# Altium integrated library Microchip PIC16 Part 2.IntLib: 1569 symbols (part 40 of 56)
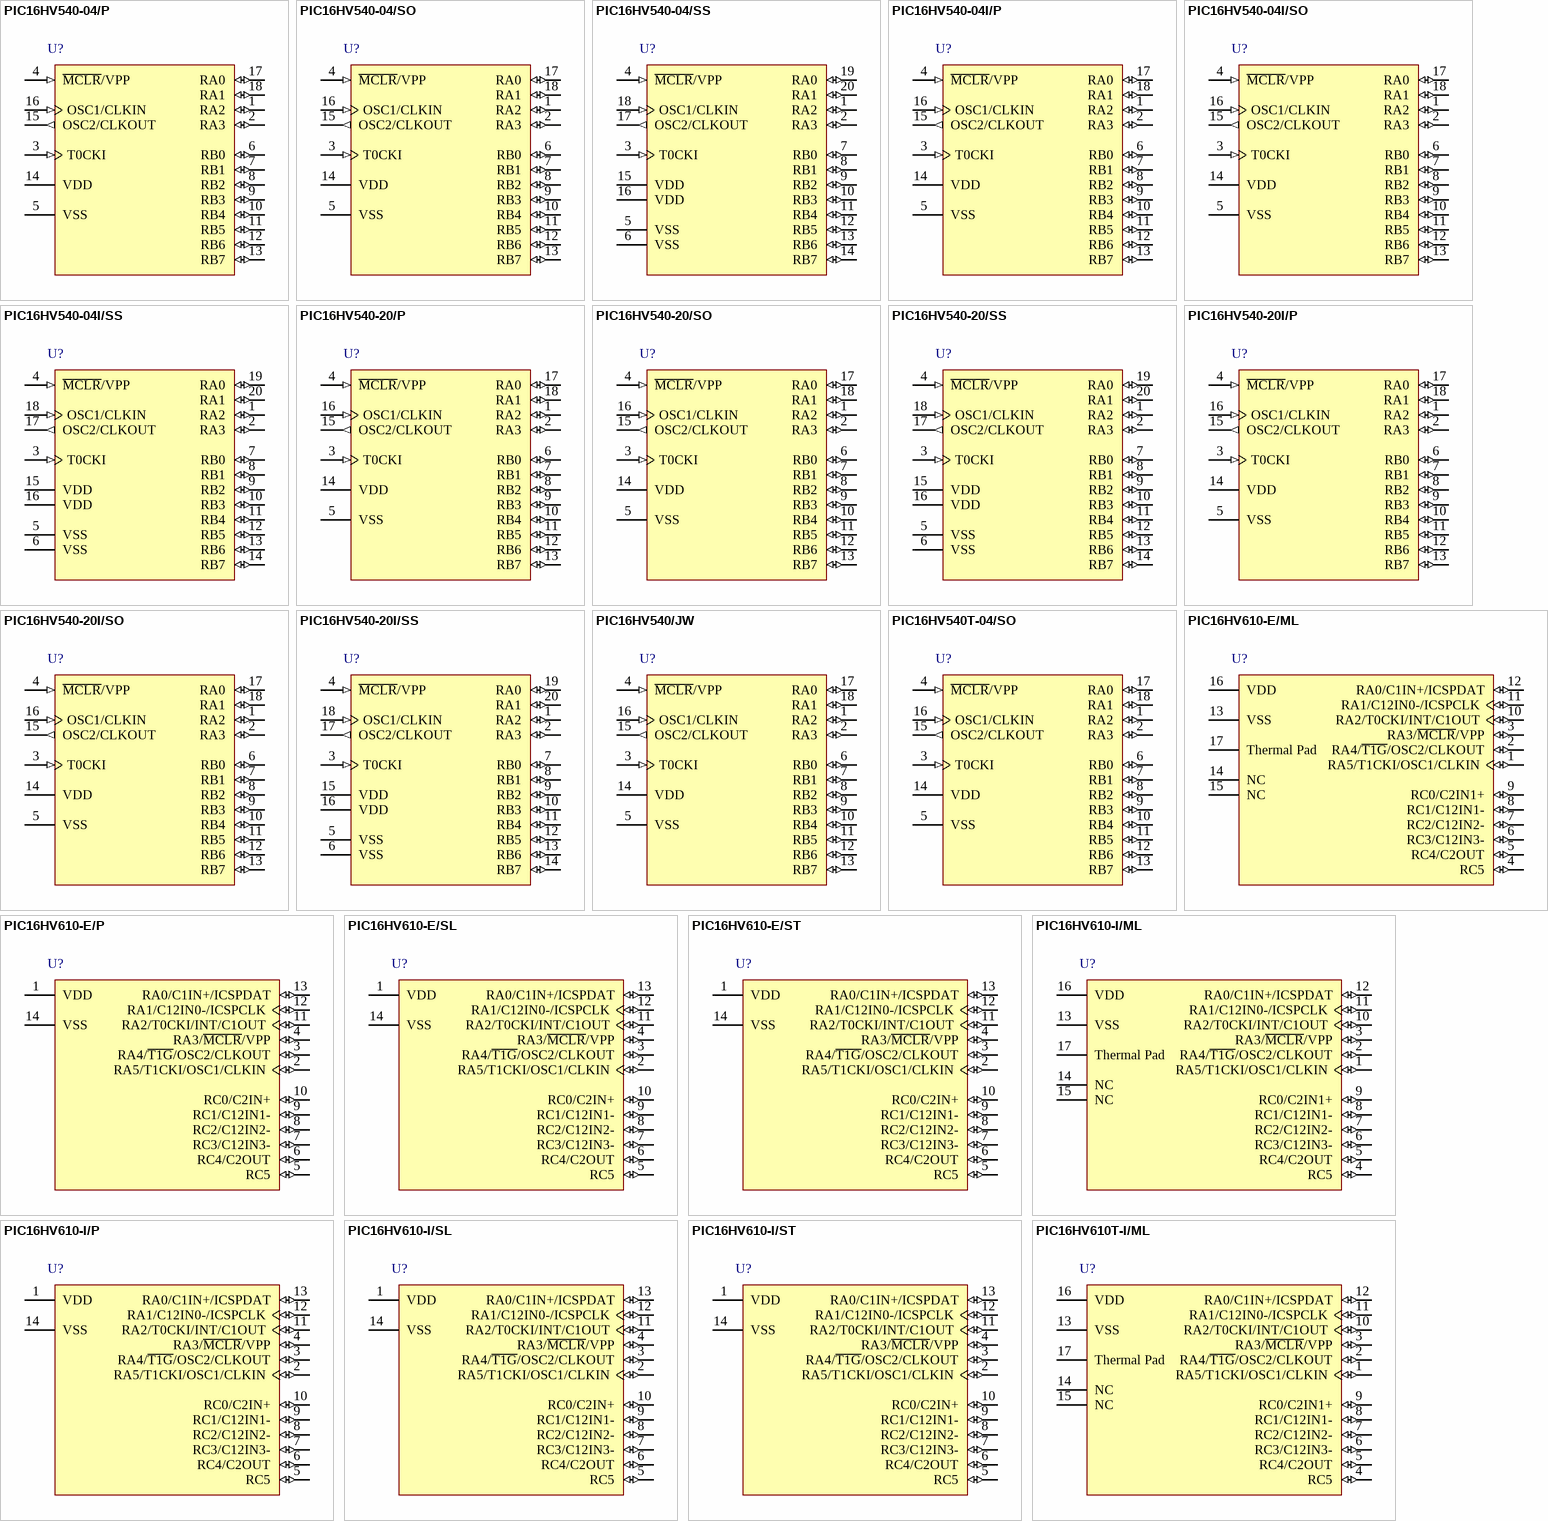
[diagram p164: symbols PIC16HV540-04/P to PIC16HV610T-I/ML]

## PIC16HV610-E/ML
designator U?
8-Bit Flash Microcontroller CMOS Microcontroller, 1K (x14-Bit words) Program Memory, 64 Bytes Data Memory, 11 I/O pins, 16-Pin QFN, Extended Temperature; Manufacturer: Microchip; PartNumber: PIC16HV610-E/ML; DatasheetVersion: revF, Nov-2009; PackageVersion: revBB, Aug-2009; PackageReference: QFN-ML16; PackageDescription: 16-Lead Plastic Quad Flat, No Lead Package (ML) - 4x4x0.9 mm Body [QFN]; Supplier 1: Digi-Key; Supplier Part Number 1: PIC16HV610-E/ML-ND; Supplier 2: Mouser; Supplier Part Number 2: 579-PIC16HV610-E/ML; Code_JEDEC: MO-220; Code_IPC: QFN65P400X400-16V2; ComponentLink1Description: Manufacturer URL; ComponentLink1URL: http://www.microchip.com/; ComponentLink2Description: Datasheet; ComponentLink2URL: http://ww1.microchip.com/downloads/en/DeviceDoc/41288F.pdf; ComponentLink3Description: Package Specification; ComponentLink3URL: http://www.microchip.com/stellent/groups/techpub_sg/documents/packagingspec/en012702.pdf
footprint QFN-ML16_N (QFN, 16-Leads, Body 4x4mm, Pitch 0.65mm, Thermal Pad 2.8x2.8mm, IPC Medium Density)
footprint QFN-ML16_L (QFN, 16-Leads, Body 4x4mm, Pitch 0.65mm, Thermal Pad 2.8x2.8mm, IPC High Density)
footprint QFN-ML16_M (QFN, 16-Leads, Body 4x4mm, Pitch 0.65mm, Thermal Pad 2.8x2.8mm, IPC Low Density)
pins: 1 RA5/T1CKI/OSC1/CLKIN (io), 2 RA4/~{T1G}/OSC2/CLKOUT (io), 3 RA3/~{MCLR}/VPP (io), 4 RC5 (io), 5 RC4/C2OUT (io), 6 RC3/C12IN3- (io), 7 RC2/C12IN2- (io), 8 RC1/C12IN1- (io), 9 RC0/C2IN1+ (io), 10 RA2/T0CKI/INT/C1OUT (io), 11 RA1/C12IN0-/ICSPCLK (io), 12 RA0/C1IN+/ICSPDAT (io), 13 VSS (power), 14 NC, 15 NC, 16 VDD (power), 17 Thermal Pad

## PIC16HV610-E/P
designator U?
8-Bit Flash Microcontroller CMOS Microcontroller, 1K (x14-Bit words) Program Memory, 64 Bytes Data Memory, 11 I/O pins, 14-Pin PDIP, Extended Temperature; Manufacturer: Microchip; PartNumber: PIC16HV610-E/P; DatasheetVersion: revF, Nov-2009; PackageVersion: revBB, Aug-2009; PackageReference: PDIP300-P14; PackageDescription: 14-Lead Plastic Dual In-Line (P) - 300 mil Body [PDIP]; Supplier 1: Digi-Key; Supplier Part Number 1: PIC16HV610-E/P-ND; Supplier 2: Mouser; Supplier Part Number 2: 579-PIC16HV610-E/P; ComponentLink1Description: Manufacturer URL; ComponentLink1URL: http://www.microchip.com/; ComponentLink2Description: Datasheet; ComponentLink2URL: http://ww1.microchip.com/downloads/en/DeviceDoc/41288F.pdf; ComponentLink3Description: Package Specification; ComponentLink3URL: http://www.microchip.com/stellent/groups/techpub_sg/documents/packagingspec/en012702.pdf
footprint PDIP300-P14 (DIP, 14-Leads, Row Spacing 7.62mm, Pitch 2.54mm, Body 19.2x6.6mm)
pins: 1 VDD (power), 2 RA5/T1CKI/OSC1/CLKIN (io), 3 RA4/~{T1G}/OSC2/CLKOUT (io), 4 RA3/~{MCLR}/VPP (io), 5 RC5 (io), 6 RC4/C2OUT (io), 7 RC3/C12IN3- (io), 8 RC2/C12IN2- (io), 9 RC1/C12IN1- (io), 10 RC0/C2IN+ (io), 11 RA2/T0CKI/INT/C1OUT (io), 12 RA1/C12IN0-/ICSPCLK (io), 13 RA0/C1IN+/ICSPDAT (io), 14 VSS (power)

## PIC16HV610-E/SL
designator U?
8-Bit Flash Microcontroller CMOS Microcontroller, 1K (x14-Bit words) Program Memory, 64 Bytes Data Memory, 11 I/O pins, 14-Pin SOIC, Extended Temperature; Manufacturer: Microchip; PartNumber: PIC16HV610-E/SL; DatasheetVersion: revF, Nov-2009; PackageVersion: revBB, Aug-2009; PackageReference: SOIC-SL14; PackageDescription: 14-Lead Plastic Small Outline (SL) - Narrow, 3.90mm Body [SOIC]; Supplier 1: Digi-Key; Supplier Part Number 1: PIC16HV610-E/SL-ND; Supplier 2: Newark; Supplier Part Number 2: 17M0950; Supplier 3: Mouser; Supplier Part Number 3: 579-PIC16HV610-E/SL; Code_JEDEC: MS-012-AB; Code_IPC: SOIC127P600-14; ComponentLink1Description: Manufacturer URL; ComponentLink1URL: http://www.microchip.com/; ComponentLink2Description: Datasheet; ComponentLink2URL: http://ww1.microchip.com/downloads/en/DeviceDoc/41288F.pdf; ComponentLink3Description: Package Specification; ComponentLink3URL: http://www.microchip.com/stellent/groups/techpub_sg/documents/packagingspec/en012702.pdf
footprint SOIC-SL14_N (SOIC, 14-Leads, Body 8.7x3.9mm, Pitch 1.27mm, IPC Medium Density)
footprint SOIC-SL14_L (SOIC, 14-Leads, Body 8.7x3.9mm, Pitch 1.27mm, IPC High Density)
footprint SOIC-SL14_M (SOIC, 14-Leads, Body 8.7x3.9mm, Pitch 1.27mm, IPC Low Density)
pins: 1 VDD (power), 2 RA5/T1CKI/OSC1/CLKIN (io), 3 RA4/~{T1G}/OSC2/CLKOUT (io), 4 RA3/~{MCLR}/VPP (io), 5 RC5 (io), 6 RC4/C2OUT (io), 7 RC3/C12IN3- (io), 8 RC2/C12IN2- (io), 9 RC1/C12IN1- (io), 10 RC0/C2IN+ (io), 11 RA2/T0CKI/INT/C1OUT (io), 12 RA1/C12IN0-/ICSPCLK (io), 13 RA0/C1IN+/ICSPDAT (io), 14 VSS (power)

## PIC16HV610-E/ST
designator U?
8-Bit Flash Microcontroller CMOS Microcontroller, 1K (x14-Bit words) Program Memory, 64 Bytes Data Memory, 11 I/O pins, 14-Pin TSSOP, Extended Temperature; Manufacturer: Microchip; PartNumber: PIC16HV610-E/ST; DatasheetVersion: revF, Nov-2009; PackageVersion: revBB, Aug-2009; PackageReference: TSSOP-ST14; PackageDescription: 14-Lead Plastic Thin Shrink Small Outline (ST) - 4.4mm Body [TSSOP]; Supplier 1: Digi-Key; Supplier Part Number 1: PIC16HV610-E/ST-ND; Supplier 2: Mouser; Supplier Part Number 2: 579-PIC16HV610-E/ST; ComponentLink1Description: Manufacturer URL; ComponentLink1URL: http://www.microchip.com/; ComponentLink2Description: Datasheet; ComponentLink2URL: http://ww1.microchip.com/downloads/en/DeviceDoc/41288F.pdf; ComponentLink3Description: Package Specification; ComponentLink3URL: http://www.microchip.com/stellent/groups/techpub_sg/documents/packagingspec/en012702.pdf
footprint TSSOP-ST14_N (TSOP, 14-Leads, Body 5x4.4mm, Pitch 0.65mm, IPC Medium Density)
footprint TSSOP-ST14_L (TSOP, 14-Leads, Body 5x4.4mm, Pitch 0.65mm, IPC High Density)
footprint TSSOP-ST14_M (TSOP, 14-Leads, Body 5x4.4mm, Pitch 0.65mm, IPC Low Density)
pins: 1 VDD (power), 2 RA5/T1CKI/OSC1/CLKIN (io), 3 RA4/~{T1G}/OSC2/CLKOUT (io), 4 RA3/~{MCLR}/VPP (io), 5 RC5 (io), 6 RC4/C2OUT (io), 7 RC3/C12IN3- (io), 8 RC2/C12IN2- (io), 9 RC1/C12IN1- (io), 10 RC0/C2IN+ (io), 11 RA2/T0CKI/INT/C1OUT (io), 12 RA1/C12IN0-/ICSPCLK (io), 13 RA0/C1IN+/ICSPDAT (io), 14 VSS (power)

## PIC16HV610-I/ML
designator U?
8-Bit Flash Microcontroller CMOS Microcontroller, 1K (x14-Bit words) Program Memory, 64 Bytes Data Memory, 11 I/O pins, 16-Pin QFN, Industrial Temperature; Manufacturer: Microchip; PartNumber: PIC16HV610-I/ML; DatasheetVersion: revF, Nov-2009; PackageVersion: revBB, Aug-2009; PackageReference: QFN-ML16; PackageDescription: 16-Lead Plastic Quad Flat, No Lead Package (ML) - 4x4x0.9 mm Body [QFN]; Supplier 1: Digi-Key; Supplier Part Number 1: PIC16HV610-I/ML-ND; Supplier 2: Mouser; Supplier Part Number 2: 579-PIC16HV610-I/ML; Code_JEDEC: MO-220; Code_IPC: QFN65P400X400-16V2; ComponentLink1Description: Manufacturer URL; ComponentLink1URL: http://www.microchip.com/; ComponentLink2Description: Datasheet; ComponentLink2URL: http://ww1.microchip.com/downloads/en/DeviceDoc/41288F.pdf; ComponentLink3Description: Package Specification; ComponentLink3URL: http://www.microchip.com/stellent/groups/techpub_sg/documents/packagingspec/en012702.pdf
footprint QFN-ML16_N (QFN, 16-Leads, Body 4x4mm, Pitch 0.65mm, Thermal Pad 2.8x2.8mm, IPC Medium Density)
footprint QFN-ML16_L (QFN, 16-Leads, Body 4x4mm, Pitch 0.65mm, Thermal Pad 2.8x2.8mm, IPC High Density)
footprint QFN-ML16_M (QFN, 16-Leads, Body 4x4mm, Pitch 0.65mm, Thermal Pad 2.8x2.8mm, IPC Low Density)
pins: 1 RA5/T1CKI/OSC1/CLKIN (io), 2 RA4/~{T1G}/OSC2/CLKOUT (io), 3 RA3/~{MCLR}/VPP (io), 4 RC5 (io), 5 RC4/C2OUT (io), 6 RC3/C12IN3- (io), 7 RC2/C12IN2- (io), 8 RC1/C12IN1- (io), 9 RC0/C2IN1+ (io), 10 RA2/T0CKI/INT/C1OUT (io), 11 RA1/C12IN0-/ICSPCLK (io), 12 RA0/C1IN+/ICSPDAT (io), 13 VSS (power), 14 NC, 15 NC, 16 VDD (power), 17 Thermal Pad

## PIC16HV610-I/P
designator U?
8-Bit Flash Microcontroller CMOS Microcontroller, 1K (x14-Bit words) Program Memory, 64 Bytes Data Memory, 11 I/O pins, 14-Pin PDIP, Industrial Temperature; Manufacturer: Microchip; PartNumber: PIC16HV610-I/P; DatasheetVersion: revF, Nov-2009; PackageVersion: revBB, Aug-2009; PackageReference: PDIP300-P14; PackageDescription: 14-Lead Plastic Dual In-Line (P) - 300 mil Body [PDIP]; Supplier 1: Digi-Key; Supplier Part Number 1: PIC16HV610-I/P-ND; Supplier 2: Newark; Supplier Part Number 2: 17M0953; Supplier 3: Mouser; Supplier Part Number 3: 579-PIC16HV610-I/P; ComponentLink1Description: Manufacturer URL; ComponentLink1URL: http://www.microchip.com/; ComponentLink2Description: Datasheet; ComponentLink2URL: http://ww1.microchip.com/downloads/en/DeviceDoc/41288F.pdf; ComponentLink3Description: Package Specification; ComponentLink3URL: http://www.microchip.com/stellent/groups/techpub_sg/documents/packagingspec/en012702.pdf
footprint PDIP300-P14 (DIP, 14-Leads, Row Spacing 7.62mm, Pitch 2.54mm, Body 19.2x6.6mm)
pins: 1 VDD (power), 2 RA5/T1CKI/OSC1/CLKIN (io), 3 RA4/~{T1G}/OSC2/CLKOUT (io), 4 RA3/~{MCLR}/VPP (io), 5 RC5 (io), 6 RC4/C2OUT (io), 7 RC3/C12IN3- (io), 8 RC2/C12IN2- (io), 9 RC1/C12IN1- (io), 10 RC0/C2IN+ (io), 11 RA2/T0CKI/INT/C1OUT (io), 12 RA1/C12IN0-/ICSPCLK (io), 13 RA0/C1IN+/ICSPDAT (io), 14 VSS (power)

## PIC16HV610-I/SL
designator U?
8-Bit Flash Microcontroller CMOS Microcontroller, 1K (x14-Bit words) Program Memory, 64 Bytes Data Memory, 11 I/O pins, 14-Pin SOIC, Industrial Temperature; Manufacturer: Microchip; PartNumber: PIC16HV610-I/SL; DatasheetVersion: revF, Nov-2009; PackageVersion: revBB, Aug-2009; PackageReference: SOIC-SL14; PackageDescription: 14-Lead Plastic Small Outline (SL) - Narrow, 3.90mm Body [SOIC]; Supplier 1: Digi-Key; Supplier Part Number 1: PIC16HV610-I/SL-ND; Supplier 2: Newark; Supplier Part Number 2: 17M0954; Supplier 3: Mouser; Supplier Part Number 3: 579-PIC16HV610-I/SL; Code_JEDEC: MS-012-AB; Code_IPC: SOIC127P600-14; ComponentLink1Description: Manufacturer URL; ComponentLink1URL: http://www.microchip.com/; ComponentLink2Description: Datasheet; ComponentLink2URL: http://ww1.microchip.com/downloads/en/DeviceDoc/41288F.pdf; ComponentLink3Description: Package Specification; ComponentLink3URL: http://www.microchip.com/stellent/groups/techpub_sg/documents/packagingspec/en012702.pdf
footprint SOIC-SL14_N (SOIC, 14-Leads, Body 8.7x3.9mm, Pitch 1.27mm, IPC Medium Density)
footprint SOIC-SL14_L (SOIC, 14-Leads, Body 8.7x3.9mm, Pitch 1.27mm, IPC High Density)
footprint SOIC-SL14_M (SOIC, 14-Leads, Body 8.7x3.9mm, Pitch 1.27mm, IPC Low Density)
pins: 1 VDD (power), 2 RA5/T1CKI/OSC1/CLKIN (io), 3 RA4/~{T1G}/OSC2/CLKOUT (io), 4 RA3/~{MCLR}/VPP (io), 5 RC5 (io), 6 RC4/C2OUT (io), 7 RC3/C12IN3- (io), 8 RC2/C12IN2- (io), 9 RC1/C12IN1- (io), 10 RC0/C2IN+ (io), 11 RA2/T0CKI/INT/C1OUT (io), 12 RA1/C12IN0-/ICSPCLK (io), 13 RA0/C1IN+/ICSPDAT (io), 14 VSS (power)

## PIC16HV610-I/ST
designator U?
8-Bit Flash Microcontroller CMOS Microcontroller, 1K (x14-Bit words) Program Memory, 64 Bytes Data Memory, 11 I/O pins, 14-Pin TSSOP, Industrial Temperature; Manufacturer: Microchip; PartNumber: PIC16HV610-I/ST; DatasheetVersion: revF, Nov-2009; PackageVersion: revBB, Aug-2009; PackageReference: TSSOP-ST14; PackageDescription: 14-Lead Plastic Thin Shrink Small Outline (ST) - 4.4mm Body [TSSOP]; Supplier 1: Digi-Key; Supplier Part Number 1: PIC16HV610-I/ST-ND; Supplier 2: Mouser; Supplier Part Number 2: 579-PIC16HV610-I/ST; ComponentLink1Description: Manufacturer URL; ComponentLink1URL: http://www.microchip.com/; ComponentLink2Description: Datasheet; ComponentLink2URL: http://ww1.microchip.com/downloads/en/DeviceDoc/41288F.pdf; ComponentLink3Description: Package Specification; ComponentLink3URL: http://www.microchip.com/stellent/groups/techpub_sg/documents/packagingspec/en012702.pdf
footprint TSSOP-ST14_N (TSOP, 14-Leads, Body 5x4.4mm, Pitch 0.65mm, IPC Medium Density)
footprint TSSOP-ST14_L (TSOP, 14-Leads, Body 5x4.4mm, Pitch 0.65mm, IPC High Density)
footprint TSSOP-ST14_M (TSOP, 14-Leads, Body 5x4.4mm, Pitch 0.65mm, IPC Low Density)
pins: 1 VDD (power), 2 RA5/T1CKI/OSC1/CLKIN (io), 3 RA4/~{T1G}/OSC2/CLKOUT (io), 4 RA3/~{MCLR}/VPP (io), 5 RC5 (io), 6 RC4/C2OUT (io), 7 RC3/C12IN3- (io), 8 RC2/C12IN2- (io), 9 RC1/C12IN1- (io), 10 RC0/C2IN+ (io), 11 RA2/T0CKI/INT/C1OUT (io), 12 RA1/C12IN0-/ICSPCLK (io), 13 RA0/C1IN+/ICSPDAT (io), 14 VSS (power)

## PIC16HV610T-I/ML
designator U?
8-Bit Flash Microcontroller CMOS Microcontroller, 1K (x14-Bit words) Program Memory, 64 Bytes Data Memory, 11 I/O pins, 16-Pin QFN, Industrial Temperature, Tape and Reel; Manufacturer: Microchip; PartNumber: PIC16HV610T-I/ML; DatasheetVersion: revF, Nov-2009; PackageVersion: revBB, Aug-2009; PackageReference: QFN-ML16; PackageDescription: 16-Lead Plastic Quad Flat, No Lead Package (ML) - 4x4x0.9 mm Body [QFN]; Supplier 1: Digi-Key; Supplier Part Number 1: PIC16HV610T-I/MLTR-ND; Supplier 2: Mouser; Supplier Part Number 2: 579-PIC16HV610T-I/ML; Code_JEDEC: MO-220; Code_IPC: QFN65P400X400-16V2; ComponentLink1Description: Manufacturer URL; ComponentLink1URL: http://www.microchip.com/; ComponentLink2Description: Datasheet; ComponentLink2URL: http://ww1.microchip.com/downloads/en/DeviceDoc/41288F.pdf; ComponentLink3Description: Package Specification; ComponentLink3URL: http://www.microchip.com/stellent/groups/techpub_sg/documents/packagingspec/en012702.pdf
footprint QFN-ML16_N (QFN, 16-Leads, Body 4x4mm, Pitch 0.65mm, Thermal Pad 2.8x2.8mm, IPC Medium Density)
footprint QFN-ML16_L (QFN, 16-Leads, Body 4x4mm, Pitch 0.65mm, Thermal Pad 2.8x2.8mm, IPC High Density)
footprint QFN-ML16_M (QFN, 16-Leads, Body 4x4mm, Pitch 0.65mm, Thermal Pad 2.8x2.8mm, IPC Low Density)
pins: 1 RA5/T1CKI/OSC1/CLKIN (io), 2 RA4/~{T1G}/OSC2/CLKOUT (io), 3 RA3/~{MCLR}/VPP (io), 4 RC5 (io), 5 RC4/C2OUT (io), 6 RC3/C12IN3- (io), 7 RC2/C12IN2- (io), 8 RC1/C12IN1- (io), 9 RC0/C2IN1+ (io), 10 RA2/T0CKI/INT/C1OUT (io), 11 RA1/C12IN0-/ICSPCLK (io), 12 RA0/C1IN+/ICSPDAT (io), 13 VSS (power), 14 NC, 15 NC, 16 VDD (power), 17 Thermal Pad

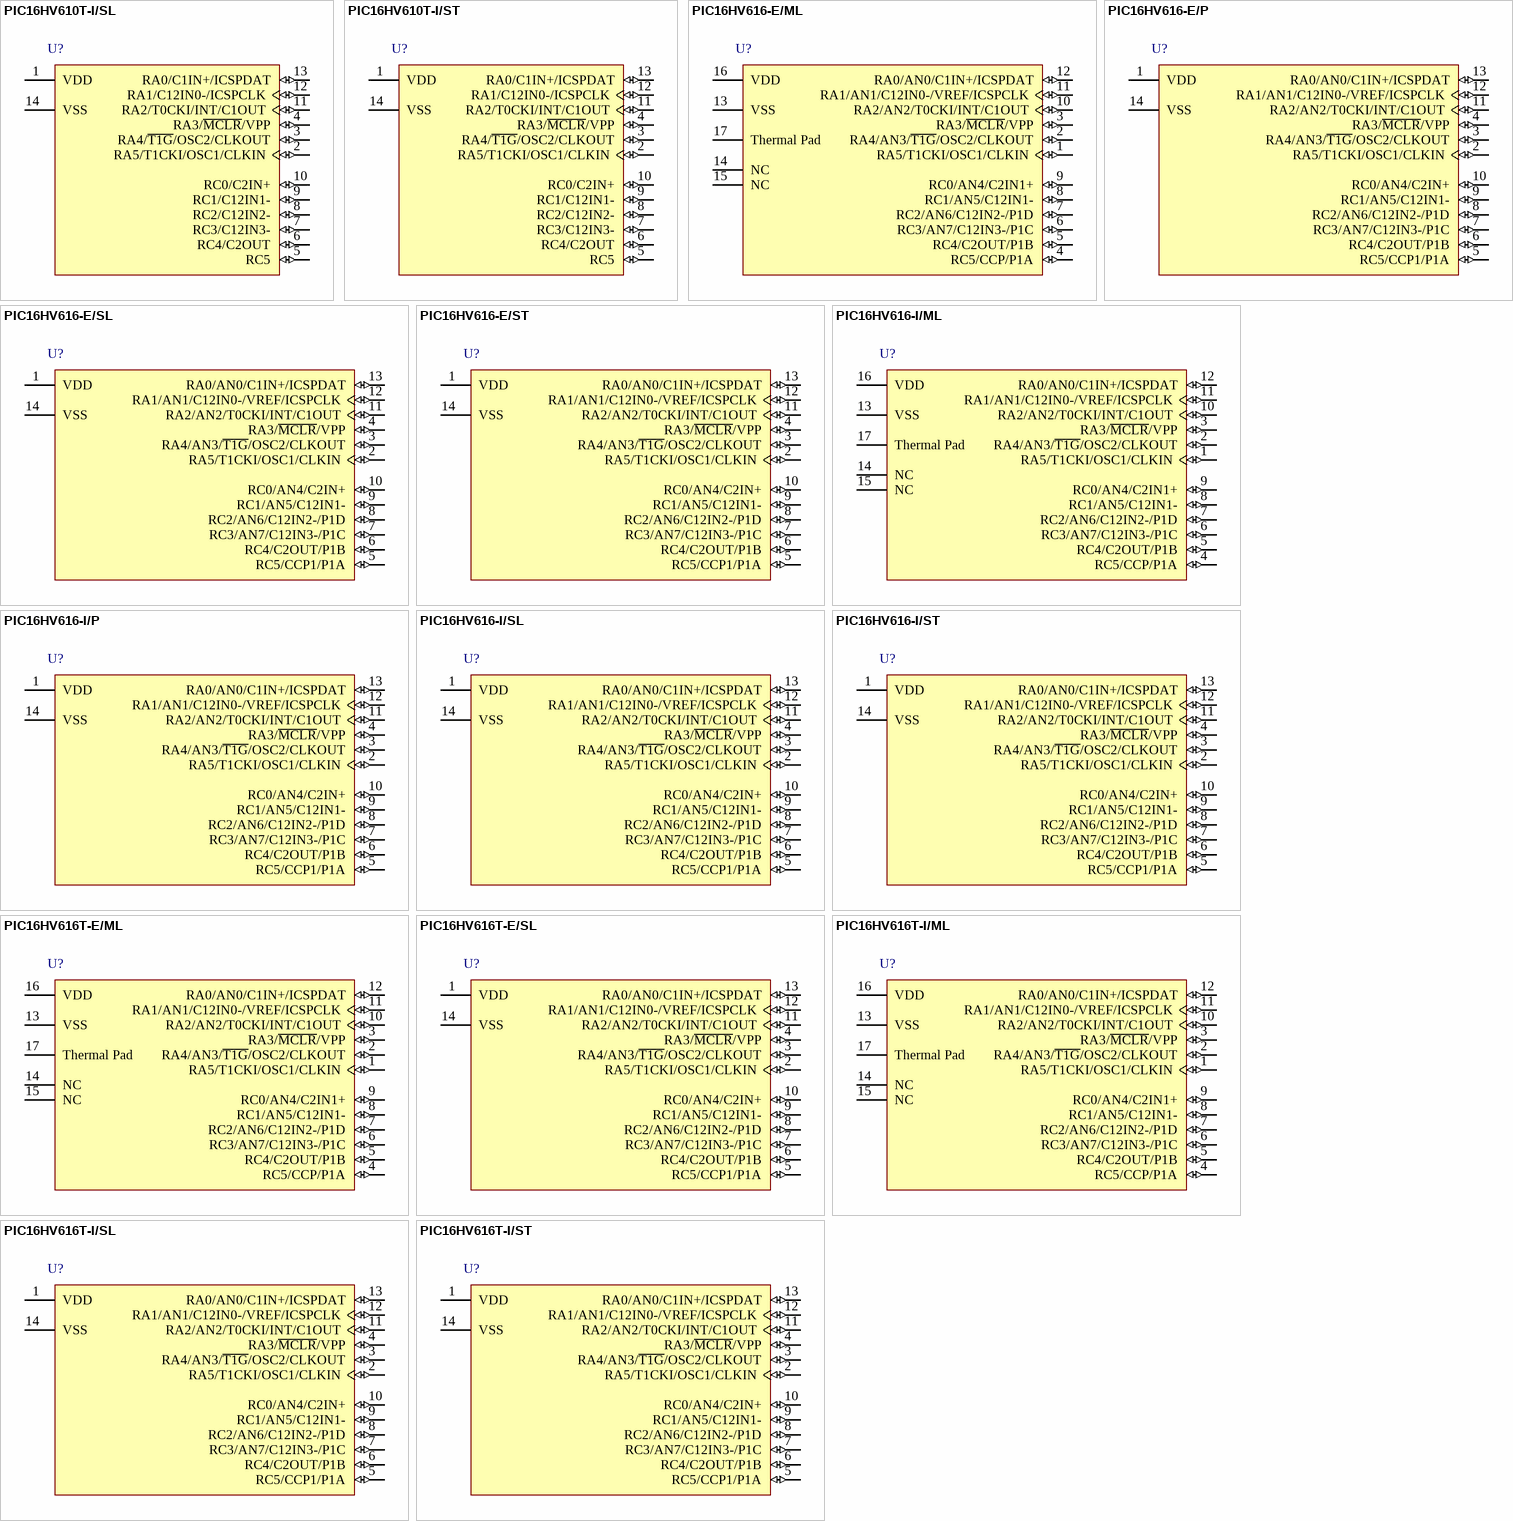
[diagram p86: symbols PIC16HV610T-I/SL to PIC16HV616T-I/ST]

## PIC16HV610T-I/SL
designator U?
8-Bit Flash Microcontroller CMOS Microcontroller, 1K (x14-Bit words) Program Memory, 64 Bytes Data Memory, 11 I/O pins, 14-Pin SOIC, Industrial Temperature, Tape and Reel; Manufacturer: Microchip; PartNumber: PIC16HV610T-I/SL; DatasheetVersion: revF, Nov-2009; PackageVersion: revBB, Aug-2009; PackageReference: SOIC-SL14; PackageDescription: 14-Lead Plastic Small Outline (SL) - Narrow, 3.90mm Body [SOIC]; Supplier 1: Digi-Key; Supplier Part Number 1: PIC16HV610T-I/SLTR-ND; Supplier 2: Mouser; Supplier Part Number 2: 579-PIC16HV610T-I/SL; Code_JEDEC: MS-012-AB; Code_IPC: SOIC127P600-14; ComponentLink1Description: Manufacturer URL; ComponentLink1URL: http://www.microchip.com/; ComponentLink2Description: Datasheet; ComponentLink2URL: http://ww1.microchip.com/downloads/en/DeviceDoc/41288F.pdf; ComponentLink3Description: Package Specification; ComponentLink3URL: http://www.microchip.com/stellent/groups/techpub_sg/documents/packagingspec/en012702.pdf
footprint SOIC-SL14_N (SOIC, 14-Leads, Body 8.7x3.9mm, Pitch 1.27mm, IPC Medium Density)
footprint SOIC-SL14_L (SOIC, 14-Leads, Body 8.7x3.9mm, Pitch 1.27mm, IPC High Density)
footprint SOIC-SL14_M (SOIC, 14-Leads, Body 8.7x3.9mm, Pitch 1.27mm, IPC Low Density)
pins: 1 VDD (power), 2 RA5/T1CKI/OSC1/CLKIN (io), 3 RA4/~{T1G}/OSC2/CLKOUT (io), 4 RA3/~{MCLR}/VPP (io), 5 RC5 (io), 6 RC4/C2OUT (io), 7 RC3/C12IN3- (io), 8 RC2/C12IN2- (io), 9 RC1/C12IN1- (io), 10 RC0/C2IN+ (io), 11 RA2/T0CKI/INT/C1OUT (io), 12 RA1/C12IN0-/ICSPCLK (io), 13 RA0/C1IN+/ICSPDAT (io), 14 VSS (power)

## PIC16HV610T-I/ST
designator U?
8-Bit Flash Microcontroller CMOS Microcontroller, 1K (x14-Bit words) Program Memory, 64 Bytes Data Memory, 11 I/O pins, 14-Pin TSSOP, Industrial Temperature, Tape and Reel; Manufacturer: Microchip; PartNumber: PIC16HV610T-I/ST; DatasheetVersion: revF, Nov-2009; PackageVersion: revBB, Aug-2009; PackageReference: TSSOP-ST14; PackageDescription: 14-Lead Plastic Thin Shrink Small Outline (ST) - 4.4mm Body [TSSOP]; Supplier 1: Digi-Key; Supplier Part Number 1: PIC16HV610T-I/STTR-ND; Supplier 2: Mouser; Supplier Part Number 2: 579-PIC16HV610T-I/ST; ComponentLink1Description: Manufacturer URL; ComponentLink1URL: http://www.microchip.com/; ComponentLink2Description: Datasheet; ComponentLink2URL: http://ww1.microchip.com/downloads/en/DeviceDoc/41288F.pdf; ComponentLink3Description: Package Specification; ComponentLink3URL: http://www.microchip.com/stellent/groups/techpub_sg/documents/packagingspec/en012702.pdf
footprint TSSOP-ST14_N (TSOP, 14-Leads, Body 5x4.4mm, Pitch 0.65mm, IPC Medium Density)
footprint TSSOP-ST14_L (TSOP, 14-Leads, Body 5x4.4mm, Pitch 0.65mm, IPC High Density)
footprint TSSOP-ST14_M (TSOP, 14-Leads, Body 5x4.4mm, Pitch 0.65mm, IPC Low Density)
pins: 1 VDD (power), 2 RA5/T1CKI/OSC1/CLKIN (io), 3 RA4/~{T1G}/OSC2/CLKOUT (io), 4 RA3/~{MCLR}/VPP (io), 5 RC5 (io), 6 RC4/C2OUT (io), 7 RC3/C12IN3- (io), 8 RC2/C12IN2- (io), 9 RC1/C12IN1- (io), 10 RC0/C2IN+ (io), 11 RA2/T0CKI/INT/C1OUT (io), 12 RA1/C12IN0-/ICSPCLK (io), 13 RA0/C1IN+/ICSPDAT (io), 14 VSS (power)

## PIC16HV616-E/ML
designator U?
8-Bit Flash Microcontroller CMOS Microcontroller, 2K (x14-Bit words) Program Memory, 128 Bytes Data Memory, 11 I/O pins, 16-Pin QFN, Extended Temperature; Manufacturer: Microchip; PartNumber: PIC16HV616-E/ML; DatasheetVersion: revF, Nov-2009; PackageVersion: revBB, Aug-2009; PackageReference: QFN-ML16; PackageDescription: 16-Lead Plastic Quad Flat, No Lead Package (ML) - 4x4x0.9 mm Body [QFN]; Supplier 1: Digi-Key; Supplier Part Number 1: PIC16HV616-E/ML-ND; Supplier 2: Mouser; Supplier Part Number 2: 579-PIC16HV616-E/ML; Code_JEDEC: MO-220; Code_IPC: QFN65P400X400-16V2; ComponentLink1Description: Manufacturer URL; ComponentLink1URL: http://www.microchip.com/; ComponentLink2Description: Datasheet; ComponentLink2URL: http://ww1.microchip.com/downloads/en/DeviceDoc/41288F.pdf; ComponentLink3Description: Package Specification; ComponentLink3URL: http://www.microchip.com/stellent/groups/techpub_sg/documents/packagingspec/en012702.pdf
footprint QFN-ML16_N (QFN, 16-Leads, Body 4x4mm, Pitch 0.65mm, Thermal Pad 2.8x2.8mm, IPC Medium Density)
footprint QFN-ML16_L (QFN, 16-Leads, Body 4x4mm, Pitch 0.65mm, Thermal Pad 2.8x2.8mm, IPC High Density)
footprint QFN-ML16_M (QFN, 16-Leads, Body 4x4mm, Pitch 0.65mm, Thermal Pad 2.8x2.8mm, IPC Low Density)
pins: 1 RA5/T1CKI/OSC1/CLKIN (io), 2 RA4/AN3/~{T1G}/OSC2/CLKOUT (io), 3 RA3/~{MCLR}/VPP (io), 4 RC5/CCP/P1A (io), 5 RC4/C2OUT/P1B (io), 6 RC3/AN7/C12IN3-/P1C (io), 7 RC2/AN6/C12IN2-/P1D (io), 8 RC1/AN5/C12IN1- (io), 9 RC0/AN4/C2IN1+ (io), 10 RA2/AN2/T0CKI/INT/C1OUT (io), 11 RA1/AN1/C12IN0-/VREF/ICSPCLK (io), 12 RA0/AN0/C1IN+/ICSPDAT (io), 13 VSS (power), 14 NC, 15 NC, 16 VDD (power), 17 Thermal Pad

## PIC16HV616-E/P
designator U?
8-Bit Flash Microcontroller CMOS Microcontroller, 2K (x14-Bit words) Program Memory, 128 Bytes Data Memory, 11 I/O pins, 14-Pin PDIP, Extended Temperature; Manufacturer: Microchip; PartNumber: PIC16HV616-E/P; DatasheetVersion: revF, Nov-2009; PackageVersion: revBB, Aug-2009; PackageReference: PDIP300-P14; PackageDescription: 14-Lead Plastic Dual In-Line (P) - 300 mil Body [PDIP]; Supplier 1: Digi-Key; Supplier Part Number 1: PIC16HV616-E/P-ND; Supplier 2: Mouser; Supplier Part Number 2: 579-PIC16HV616-E/P; ComponentLink1Description: Manufacturer URL; ComponentLink1URL: http://www.microchip.com/; ComponentLink2Description: Datasheet; ComponentLink2URL: http://ww1.microchip.com/downloads/en/DeviceDoc/41288F.pdf; ComponentLink3Description: Package Specification; ComponentLink3URL: http://www.microchip.com/stellent/groups/techpub_sg/documents/packagingspec/en012702.pdf
footprint PDIP300-P14 (DIP, 14-Leads, Row Spacing 7.62mm, Pitch 2.54mm, Body 19.2x6.6mm)
pins: 1 VDD (power), 2 RA5/T1CKI/OSC1/CLKIN (io), 3 RA4/AN3/~{T1G}/OSC2/CLKOUT (io), 4 RA3/~{MCLR}/VPP (io), 5 RC5/CCP1/P1A (io), 6 RC4/C2OUT/P1B (io), 7 RC3/AN7/C12IN3-/P1C (io), 8 RC2/AN6/C12IN2-/P1D (io), 9 RC1/AN5/C12IN1- (io), 10 RC0/AN4/C2IN+ (io), 11 RA2/AN2/T0CKI/INT/C1OUT (io), 12 RA1/AN1/C12IN0-/VREF/ICSPCLK (io), 13 RA0/AN0/C1IN+/ICSPDAT (io), 14 VSS (power)

## PIC16HV616-E/SL
designator U?
8-Bit Flash Microcontroller CMOS Microcontroller, 2K (x14-Bit words) Program Memory, 128 Bytes Data Memory, 11 I/O pins, 14-Pin SOIC, Extended Temperature; Manufacturer: Microchip; PartNumber: PIC16HV616-E/SL; DatasheetVersion: revF, Nov-2009; PackageVersion: revBB, Aug-2009; PackageReference: SOIC-SL14; PackageDescription: 14-Lead Plastic Small Outline (SL) - Narrow, 3.90mm Body [SOIC]; Supplier 1: Digi-Key; Supplier Part Number 1: PIC16HV616-E/SL-ND; Supplier 2: Farnell; Supplier Part Number 2: 2318411; Supplier 3: Newark; Supplier Part Number 3: 74K8592; Supplier 4: Mouser; Supplier Part Number 4: 579-PIC16HV616-E/SL; Code_JEDEC: MS-012-AB; Code_IPC: SOIC127P600-14; ComponentLink1Description: Manufacturer URL; ComponentLink1URL: http://www.microchip.com/; ComponentLink2Description: Datasheet; ComponentLink2URL: http://ww1.microchip.com/downloads/en/DeviceDoc/41288F.pdf; ComponentLink3Description: Package Specification; ComponentLink3URL: http://www.microchip.com/stellent/groups/techpub_sg/documents/packagingspec/en012702.pdf
footprint SOIC-SL14_N (SOIC, 14-Leads, Body 8.7x3.9mm, Pitch 1.27mm, IPC Medium Density)
footprint SOIC-SL14_L (SOIC, 14-Leads, Body 8.7x3.9mm, Pitch 1.27mm, IPC High Density)
footprint SOIC-SL14_M (SOIC, 14-Leads, Body 8.7x3.9mm, Pitch 1.27mm, IPC Low Density)
pins: 1 VDD (power), 2 RA5/T1CKI/OSC1/CLKIN (io), 3 RA4/AN3/~{T1G}/OSC2/CLKOUT (io), 4 RA3/~{MCLR}/VPP (io), 5 RC5/CCP1/P1A (io), 6 RC4/C2OUT/P1B (io), 7 RC3/AN7/C12IN3-/P1C (io), 8 RC2/AN6/C12IN2-/P1D (io), 9 RC1/AN5/C12IN1- (io), 10 RC0/AN4/C2IN+ (io), 11 RA2/AN2/T0CKI/INT/C1OUT (io), 12 RA1/AN1/C12IN0-/VREF/ICSPCLK (io), 13 RA0/AN0/C1IN+/ICSPDAT (io), 14 VSS (power)

## PIC16HV616-E/ST
designator U?
8-Bit Flash Microcontroller CMOS Microcontroller, 2K (x14-Bit words) Program Memory, 128 Bytes Data Memory, 11 I/O pins, 14-Pin TSSOP, Extended Temperature; Manufacturer: Microchip; PartNumber: PIC16HV616-E/ST; DatasheetVersion: revF, Nov-2009; PackageVersion: revBB, Aug-2009; PackageReference: TSSOP-ST14; PackageDescription: 14-Lead Plastic Thin Shrink Small Outline (ST) - 4.4mm Body [TSSOP]; Supplier 1: Digi-Key; Supplier Part Number 1: PIC16HV616-E/ST-ND; Supplier 2: Mouser; Supplier Part Number 2: 579-PIC16HV616-E/ST; ComponentLink1Description: Manufacturer URL; ComponentLink1URL: http://www.microchip.com/; ComponentLink2Description: Datasheet; ComponentLink2URL: http://ww1.microchip.com/downloads/en/DeviceDoc/41288F.pdf; ComponentLink3Description: Package Specification; ComponentLink3URL: http://www.microchip.com/stellent/groups/techpub_sg/documents/packagingspec/en012702.pdf
footprint TSSOP-ST14_N (TSOP, 14-Leads, Body 5x4.4mm, Pitch 0.65mm, IPC Medium Density)
footprint TSSOP-ST14_L (TSOP, 14-Leads, Body 5x4.4mm, Pitch 0.65mm, IPC High Density)
footprint TSSOP-ST14_M (TSOP, 14-Leads, Body 5x4.4mm, Pitch 0.65mm, IPC Low Density)
pins: 1 VDD (power), 2 RA5/T1CKI/OSC1/CLKIN (io), 3 RA4/AN3/~{T1G}/OSC2/CLKOUT (io), 4 RA3/~{MCLR}/VPP (io), 5 RC5/CCP1/P1A (io), 6 RC4/C2OUT/P1B (io), 7 RC3/AN7/C12IN3-/P1C (io), 8 RC2/AN6/C12IN2-/P1D (io), 9 RC1/AN5/C12IN1- (io), 10 RC0/AN4/C2IN+ (io), 11 RA2/AN2/T0CKI/INT/C1OUT (io), 12 RA1/AN1/C12IN0-/VREF/ICSPCLK (io), 13 RA0/AN0/C1IN+/ICSPDAT (io), 14 VSS (power)

## PIC16HV616-I/ML
designator U?
8-Bit Flash Microcontroller CMOS Microcontroller, 2K (x14-Bit words) Program Memory, 128 Bytes Data Memory, 11 I/O pins, 16-Pin QFN, Industrial Temperature; Manufacturer: Microchip; PartNumber: PIC16HV616-I/ML; DatasheetVersion: revF, Nov-2009; PackageVersion: revBB, Aug-2009; PackageReference: QFN-ML16; PackageDescription: 16-Lead Plastic Quad Flat, No Lead Package (ML) - 4x4x0.9 mm Body [QFN]; Supplier 1: Digi-Key; Supplier Part Number 1: PIC16HV616-I/ML-ND; Supplier 2: Mouser; Supplier Part Number 2: 579-PIC16HV616-I/ML; Code_JEDEC: MO-220; Code_IPC: QFN65P400X400-16V2; ComponentLink1Description: Manufacturer URL; ComponentLink1URL: http://www.microchip.com/; ComponentLink2Description: Datasheet; ComponentLink2URL: http://ww1.microchip.com/downloads/en/DeviceDoc/41288F.pdf; ComponentLink3Description: Package Specification; ComponentLink3URL: http://www.microchip.com/stellent/groups/techpub_sg/documents/packagingspec/en012702.pdf
footprint QFN-ML16_N (QFN, 16-Leads, Body 4x4mm, Pitch 0.65mm, Thermal Pad 2.8x2.8mm, IPC Medium Density)
footprint QFN-ML16_L (QFN, 16-Leads, Body 4x4mm, Pitch 0.65mm, Thermal Pad 2.8x2.8mm, IPC High Density)
footprint QFN-ML16_M (QFN, 16-Leads, Body 4x4mm, Pitch 0.65mm, Thermal Pad 2.8x2.8mm, IPC Low Density)
pins: 1 RA5/T1CKI/OSC1/CLKIN (io), 2 RA4/AN3/~{T1G}/OSC2/CLKOUT (io), 3 RA3/~{MCLR}/VPP (io), 4 RC5/CCP/P1A (io), 5 RC4/C2OUT/P1B (io), 6 RC3/AN7/C12IN3-/P1C (io), 7 RC2/AN6/C12IN2-/P1D (io), 8 RC1/AN5/C12IN1- (io), 9 RC0/AN4/C2IN1+ (io), 10 RA2/AN2/T0CKI/INT/C1OUT (io), 11 RA1/AN1/C12IN0-/VREF/ICSPCLK (io), 12 RA0/AN0/C1IN+/ICSPDAT (io), 13 VSS (power), 14 NC, 15 NC, 16 VDD (power), 17 Thermal Pad

## PIC16HV616-I/P
designator U?
8-Bit Flash Microcontroller CMOS Microcontroller, 2K (x14-Bit words) Program Memory, 128 Bytes Data Memory, 11 I/O pins, 14-Pin PDIP, Industrial Temperature; Manufacturer: Microchip; PartNumber: PIC16HV616-I/P; DatasheetVersion: revF, Nov-2009; PackageVersion: revBB, Aug-2009; PackageReference: PDIP300-P14; PackageDescription: 14-Lead Plastic Dual In-Line (P) - 300 mil Body [PDIP]; Supplier 1: Digi-Key; Supplier Part Number 1: PIC16HV616-I/P-ND; Supplier 2: Farnell; Supplier Part Number 2: 1332222; Supplier 3: Newark; Supplier Part Number 3: 74K8595; Supplier 4: Mouser; Supplier Part Number 4: 579-PIC16HV616-I/P; ComponentLink1Description: Manufacturer URL; ComponentLink1URL: http://www.microchip.com/; ComponentLink2Description: Datasheet; ComponentLink2URL: http://ww1.microchip.com/downloads/en/DeviceDoc/41288F.pdf; ComponentLink3Description: Package Specification; ComponentLink3URL: http://www.microchip.com/stellent/groups/techpub_sg/documents/packagingspec/en012702.pdf
footprint PDIP300-P14 (DIP, 14-Leads, Row Spacing 7.62mm, Pitch 2.54mm, Body 19.2x6.6mm)
pins: 1 VDD (power), 2 RA5/T1CKI/OSC1/CLKIN (io), 3 RA4/AN3/~{T1G}/OSC2/CLKOUT (io), 4 RA3/~{MCLR}/VPP (io), 5 RC5/CCP1/P1A (io), 6 RC4/C2OUT/P1B (io), 7 RC3/AN7/C12IN3-/P1C (io), 8 RC2/AN6/C12IN2-/P1D (io), 9 RC1/AN5/C12IN1- (io), 10 RC0/AN4/C2IN+ (io), 11 RA2/AN2/T0CKI/INT/C1OUT (io), 12 RA1/AN1/C12IN0-/VREF/ICSPCLK (io), 13 RA0/AN0/C1IN+/ICSPDAT (io), 14 VSS (power)

## PIC16HV616-I/SL
designator U?
8-Bit Flash Microcontroller CMOS Microcontroller, 2K (x14-Bit words) Program Memory, 128 Bytes Data Memory, 11 I/O pins, 14-Pin SOIC, Industrial Temperature; Manufacturer: Microchip; PartNumber: PIC16HV616-I/SL; DatasheetVersion: revF, Nov-2009; PackageVersion: revBB, Aug-2009; PackageReference: SOIC-SL14; PackageDescription: 14-Lead Plastic Small Outline (SL) - Narrow, 3.90mm Body [SOIC]; Supplier 1: Digi-Key; Supplier Part Number 1: PIC16HV616-I/SL-ND; Supplier 2: Farnell; Supplier Part Number 2: 1332224; Supplier 3: Newark; Supplier Part Number 3: 74K8596; Supplier 4: Mouser; Supplier Part Number 4: 579-PIC16HV616-I/SL; Code_JEDEC: MS-012-AB; Code_IPC: SOIC127P600-14; ComponentLink1Description: Manufacturer URL; ComponentLink1URL: http://www.microchip.com/; ComponentLink2Description: Datasheet; ComponentLink2URL: http://ww1.microchip.com/downloads/en/DeviceDoc/41288F.pdf; ComponentLink3Description: Package Specification; ComponentLink3URL: http://www.microchip.com/stellent/groups/techpub_sg/documents/packagingspec/en012702.pdf
footprint SOIC-SL14_N (SOIC, 14-Leads, Body 8.7x3.9mm, Pitch 1.27mm, IPC Medium Density)
footprint SOIC-SL14_L (SOIC, 14-Leads, Body 8.7x3.9mm, Pitch 1.27mm, IPC High Density)
footprint SOIC-SL14_M (SOIC, 14-Leads, Body 8.7x3.9mm, Pitch 1.27mm, IPC Low Density)
pins: 1 VDD (power), 2 RA5/T1CKI/OSC1/CLKIN (io), 3 RA4/AN3/~{T1G}/OSC2/CLKOUT (io), 4 RA3/~{MCLR}/VPP (io), 5 RC5/CCP1/P1A (io), 6 RC4/C2OUT/P1B (io), 7 RC3/AN7/C12IN3-/P1C (io), 8 RC2/AN6/C12IN2-/P1D (io), 9 RC1/AN5/C12IN1- (io), 10 RC0/AN4/C2IN+ (io), 11 RA2/AN2/T0CKI/INT/C1OUT (io), 12 RA1/AN1/C12IN0-/VREF/ICSPCLK (io), 13 RA0/AN0/C1IN+/ICSPDAT (io), 14 VSS (power)

## PIC16HV616-I/ST
designator U?
8-Bit Flash Microcontroller CMOS Microcontroller, 2K (x14-Bit words) Program Memory, 128 Bytes Data Memory, 11 I/O pins, 14-Pin TSSOP, Industrial Temperature; Manufacturer: Microchip; PartNumber: PIC16HV616-I/ST; DatasheetVersion: revF, Nov-2009; PackageVersion: revBB, Aug-2009; PackageReference: TSSOP-ST14; PackageDescription: 14-Lead Plastic Thin Shrink Small Outline (ST) - 4.4mm Body [TSSOP]; Supplier 1: Digi-Key; Supplier Part Number 1: PIC16HV616-I/ST-ND; Supplier 2: Newark; Supplier Part Number 2: 74K8597; Supplier 3: Mouser; Supplier Part Number 3: 579-PIC16HV616-I/ST; ComponentLink1Description: Manufacturer URL; ComponentLink1URL: http://www.microchip.com/; ComponentLink2Description: Datasheet; ComponentLink2URL: http://ww1.microchip.com/downloads/en/DeviceDoc/41288F.pdf; ComponentLink3Description: Package Specification; ComponentLink3URL: http://www.microchip.com/stellent/groups/techpub_sg/documents/packagingspec/en012702.pdf
footprint TSSOP-ST14_N (TSOP, 14-Leads, Body 5x4.4mm, Pitch 0.65mm, IPC Medium Density)
footprint TSSOP-ST14_L (TSOP, 14-Leads, Body 5x4.4mm, Pitch 0.65mm, IPC High Density)
footprint TSSOP-ST14_M (TSOP, 14-Leads, Body 5x4.4mm, Pitch 0.65mm, IPC Low Density)
pins: 1 VDD (power), 2 RA5/T1CKI/OSC1/CLKIN (io), 3 RA4/AN3/~{T1G}/OSC2/CLKOUT (io), 4 RA3/~{MCLR}/VPP (io), 5 RC5/CCP1/P1A (io), 6 RC4/C2OUT/P1B (io), 7 RC3/AN7/C12IN3-/P1C (io), 8 RC2/AN6/C12IN2-/P1D (io), 9 RC1/AN5/C12IN1- (io), 10 RC0/AN4/C2IN+ (io), 11 RA2/AN2/T0CKI/INT/C1OUT (io), 12 RA1/AN1/C12IN0-/VREF/ICSPCLK (io), 13 RA0/AN0/C1IN+/ICSPDAT (io), 14 VSS (power)

## PIC16HV616T-E/ML
designator U?
8-Bit Flash Microcontroller CMOS Microcontroller, 2K (x14-Bit words) Program Memory, 128 Bytes Data Memory, 11 I/O pins, 16-Pin QFN, Extended Temperature, Tape and Reel; Manufacturer: Microchip; PartNumber: PIC16HV616T-E/ML; DatasheetVersion: revF, Nov-2009; PackageVersion: revBB, Aug-2009; PackageReference: QFN-ML16; PackageDescription: 16-Lead Plastic Quad Flat, No Lead Package (ML) - 4x4x0.9 mm Body [QFN]; Code_JEDEC: MO-220; Code_IPC: QFN65P400X400-16V2; ComponentLink1Description: Manufacturer URL; ComponentLink1URL: http://www.microchip.com/; ComponentLink2Description: Datasheet; ComponentLink2URL: http://ww1.microchip.com/downloads/en/DeviceDoc/41288F.pdf; ComponentLink3Description: Package Specification; ComponentLink3URL: http://www.microchip.com/stellent/groups/techpub_sg/documents/packagingspec/en012702.pdf
footprint QFN-ML16_N (QFN, 16-Leads, Body 4x4mm, Pitch 0.65mm, Thermal Pad 2.8x2.8mm, IPC Medium Density)
footprint QFN-ML16_L (QFN, 16-Leads, Body 4x4mm, Pitch 0.65mm, Thermal Pad 2.8x2.8mm, IPC High Density)
footprint QFN-ML16_M (QFN, 16-Leads, Body 4x4mm, Pitch 0.65mm, Thermal Pad 2.8x2.8mm, IPC Low Density)
pins: 1 RA5/T1CKI/OSC1/CLKIN (io), 2 RA4/AN3/~{T1G}/OSC2/CLKOUT (io), 3 RA3/~{MCLR}/VPP (io), 4 RC5/CCP/P1A (io), 5 RC4/C2OUT/P1B (io), 6 RC3/AN7/C12IN3-/P1C (io), 7 RC2/AN6/C12IN2-/P1D (io), 8 RC1/AN5/C12IN1- (io), 9 RC0/AN4/C2IN1+ (io), 10 RA2/AN2/T0CKI/INT/C1OUT (io), 11 RA1/AN1/C12IN0-/VREF/ICSPCLK (io), 12 RA0/AN0/C1IN+/ICSPDAT (io), 13 VSS (power), 14 NC, 15 NC, 16 VDD (power), 17 Thermal Pad

## PIC16HV616T-E/SL
designator U?
8-Bit Flash Microcontroller CMOS Microcontroller, 2K (x14-Bit words) Program Memory, 128 Bytes Data Memory, 11 I/O pins, 14-Pin SOIC, Extended Temperature, Tape and Reel; Manufacturer: Microchip; PartNumber: PIC16HV616T-E/SL; DatasheetVersion: revF, Nov-2009; PackageVersion: revBB, Aug-2009; PackageReference: SOIC-SL14; PackageDescription: 14-Lead Plastic Small Outline (SL) - Narrow, 3.90mm Body [SOIC]; Code_JEDEC: MS-012-AB; Code_IPC: SOIC127P600-14; ComponentLink1Description: Manufacturer URL; ComponentLink1URL: http://www.microchip.com/; ComponentLink2Description: Datasheet; ComponentLink2URL: http://ww1.microchip.com/downloads/en/DeviceDoc/41288F.pdf; ComponentLink3Description: Package Specification; ComponentLink3URL: http://www.microchip.com/stellent/groups/techpub_sg/documents/packagingspec/en012702.pdf
footprint SOIC-SL14_N (SOIC, 14-Leads, Body 8.7x3.9mm, Pitch 1.27mm, IPC Medium Density)
footprint SOIC-SL14_L (SOIC, 14-Leads, Body 8.7x3.9mm, Pitch 1.27mm, IPC High Density)
footprint SOIC-SL14_M (SOIC, 14-Leads, Body 8.7x3.9mm, Pitch 1.27mm, IPC Low Density)
pins: 1 VDD (power), 2 RA5/T1CKI/OSC1/CLKIN (io), 3 RA4/AN3/~{T1G}/OSC2/CLKOUT (io), 4 RA3/~{MCLR}/VPP (io), 5 RC5/CCP1/P1A (io), 6 RC4/C2OUT/P1B (io), 7 RC3/AN7/C12IN3-/P1C (io), 8 RC2/AN6/C12IN2-/P1D (io), 9 RC1/AN5/C12IN1- (io), 10 RC0/AN4/C2IN+ (io), 11 RA2/AN2/T0CKI/INT/C1OUT (io), 12 RA1/AN1/C12IN0-/VREF/ICSPCLK (io), 13 RA0/AN0/C1IN+/ICSPDAT (io), 14 VSS (power)

## PIC16HV616T-I/ML
designator U?
8-Bit Flash Microcontroller CMOS Microcontroller, 2K (x14-Bit words) Program Memory, 128 Bytes Data Memory, 11 I/O pins, 16-Pin QFN, Industrial Temperature, Tape and Reel; Manufacturer: Microchip; PartNumber: PIC16HV616T-I/ML; DatasheetVersion: revF, Nov-2009; PackageVersion: revBB, Aug-2009; PackageReference: QFN-ML16; PackageDescription: 16-Lead Plastic Quad Flat, No Lead Package (ML) - 4x4x0.9 mm Body [QFN]; Supplier 1: Digi-Key; Supplier Part Number 1: PIC16HV616T-I/ML-ND; Supplier 2: Mouser; Supplier Part Number 2: 579-PIC16HV616T-I/ML; Code_JEDEC: MO-220; Code_IPC: QFN65P400X400-16V2; ComponentLink1Description: Manufacturer URL; ComponentLink1URL: http://www.microchip.com/; ComponentLink2Description: Datasheet; ComponentLink2URL: http://ww1.microchip.com/downloads/en/DeviceDoc/41288F.pdf; ComponentLink3Description: Package Specification; ComponentLink3URL: http://www.microchip.com/stellent/groups/techpub_sg/documents/packagingspec/en012702.pdf
footprint QFN-ML16_N (QFN, 16-Leads, Body 4x4mm, Pitch 0.65mm, Thermal Pad 2.8x2.8mm, IPC Medium Density)
footprint QFN-ML16_L (QFN, 16-Leads, Body 4x4mm, Pitch 0.65mm, Thermal Pad 2.8x2.8mm, IPC High Density)
footprint QFN-ML16_M (QFN, 16-Leads, Body 4x4mm, Pitch 0.65mm, Thermal Pad 2.8x2.8mm, IPC Low Density)
pins: 1 RA5/T1CKI/OSC1/CLKIN (io), 2 RA4/AN3/~{T1G}/OSC2/CLKOUT (io), 3 RA3/~{MCLR}/VPP (io), 4 RC5/CCP/P1A (io), 5 RC4/C2OUT/P1B (io), 6 RC3/AN7/C12IN3-/P1C (io), 7 RC2/AN6/C12IN2-/P1D (io), 8 RC1/AN5/C12IN1- (io), 9 RC0/AN4/C2IN1+ (io), 10 RA2/AN2/T0CKI/INT/C1OUT (io), 11 RA1/AN1/C12IN0-/VREF/ICSPCLK (io), 12 RA0/AN0/C1IN+/ICSPDAT (io), 13 VSS (power), 14 NC, 15 NC, 16 VDD (power), 17 Thermal Pad

## PIC16HV616T-I/SL
designator U?
8-Bit Flash Microcontroller CMOS Microcontroller, 2K (x14-Bit words) Program Memory, 128 Bytes Data Memory, 11 I/O pins, 14-Pin SOIC, Industrial Temperature, Tape and Reel; Manufacturer: Microchip; PartNumber: PIC16HV616T-I/SL; DatasheetVersion: revF, Nov-2009; PackageVersion: revBB, Aug-2009; PackageReference: SOIC-SL14; PackageDescription: 14-Lead Plastic Small Outline (SL) - Narrow, 3.90mm Body [SOIC]; Supplier 1: Digi-Key; Supplier Part Number 1: PIC16HV616T-I/SL-ND; Supplier 2: Newark; Supplier Part Number 2: 74K8599; Supplier 3: Mouser; Supplier Part Number 3: 579-PIC16HV616T-I/SL; Code_JEDEC: MS-012-AB; Code_IPC: SOIC127P600-14; ComponentLink1Description: Manufacturer URL; ComponentLink1URL: http://www.microchip.com/; ComponentLink2Description: Datasheet; ComponentLink2URL: http://ww1.microchip.com/downloads/en/DeviceDoc/41288F.pdf; ComponentLink3Description: Package Specification; ComponentLink3URL: http://www.microchip.com/stellent/groups/techpub_sg/documents/packagingspec/en012702.pdf
footprint SOIC-SL14_N (SOIC, 14-Leads, Body 8.7x3.9mm, Pitch 1.27mm, IPC Medium Density)
footprint SOIC-SL14_L (SOIC, 14-Leads, Body 8.7x3.9mm, Pitch 1.27mm, IPC High Density)
footprint SOIC-SL14_M (SOIC, 14-Leads, Body 8.7x3.9mm, Pitch 1.27mm, IPC Low Density)
pins: 1 VDD (power), 2 RA5/T1CKI/OSC1/CLKIN (io), 3 RA4/AN3/~{T1G}/OSC2/CLKOUT (io), 4 RA3/~{MCLR}/VPP (io), 5 RC5/CCP1/P1A (io), 6 RC4/C2OUT/P1B (io), 7 RC3/AN7/C12IN3-/P1C (io), 8 RC2/AN6/C12IN2-/P1D (io), 9 RC1/AN5/C12IN1- (io), 10 RC0/AN4/C2IN+ (io), 11 RA2/AN2/T0CKI/INT/C1OUT (io), 12 RA1/AN1/C12IN0-/VREF/ICSPCLK (io), 13 RA0/AN0/C1IN+/ICSPDAT (io), 14 VSS (power)

## PIC16HV616T-I/ST
designator U?
8-Bit Flash Microcontroller CMOS Microcontroller, 2K (x14-Bit words) Program Memory, 128 Bytes Data Memory, 11 I/O pins, 14-Pin TSSOP, Industrial Temperature, Tape and Reel; Manufacturer: Microchip; PartNumber: PIC16HV616T-I/ST; DatasheetVersion: revF, Nov-2009; PackageVersion: revBB, Aug-2009; PackageReference: TSSOP-ST14; PackageDescription: 14-Lead Plastic Thin Shrink Small Outline (ST) - 4.4mm Body [TSSOP]; Supplier 1: Digi-Key; Supplier Part Number 1: PIC16HV616T-I/ST-ND; Supplier 2: Mouser; Supplier Part Number 2: 579-PIC16HV616T-I/ST; ComponentLink1Description: Manufacturer URL; ComponentLink1URL: http://www.microchip.com/; ComponentLink2Description: Datasheet; ComponentLink2URL: http://ww1.microchip.com/downloads/en/DeviceDoc/41288F.pdf; ComponentLink3Description: Package Specification; ComponentLink3URL: http://www.microchip.com/stellent/groups/techpub_sg/documents/packagingspec/en012702.pdf
footprint TSSOP-ST14_N (TSOP, 14-Leads, Body 5x4.4mm, Pitch 0.65mm, IPC Medium Density)
footprint TSSOP-ST14_L (TSOP, 14-Leads, Body 5x4.4mm, Pitch 0.65mm, IPC High Density)
footprint TSSOP-ST14_M (TSOP, 14-Leads, Body 5x4.4mm, Pitch 0.65mm, IPC Low Density)
pins: 1 VDD (power), 2 RA5/T1CKI/OSC1/CLKIN (io), 3 RA4/AN3/~{T1G}/OSC2/CLKOUT (io), 4 RA3/~{MCLR}/VPP (io), 5 RC5/CCP1/P1A (io), 6 RC4/C2OUT/P1B (io), 7 RC3/AN7/C12IN3-/P1C (io), 8 RC2/AN6/C12IN2-/P1D (io), 9 RC1/AN5/C12IN1- (io), 10 RC0/AN4/C2IN+ (io), 11 RA2/AN2/T0CKI/INT/C1OUT (io), 12 RA1/AN1/C12IN0-/VREF/ICSPCLK (io), 13 RA0/AN0/C1IN+/ICSPDAT (io), 14 VSS (power)

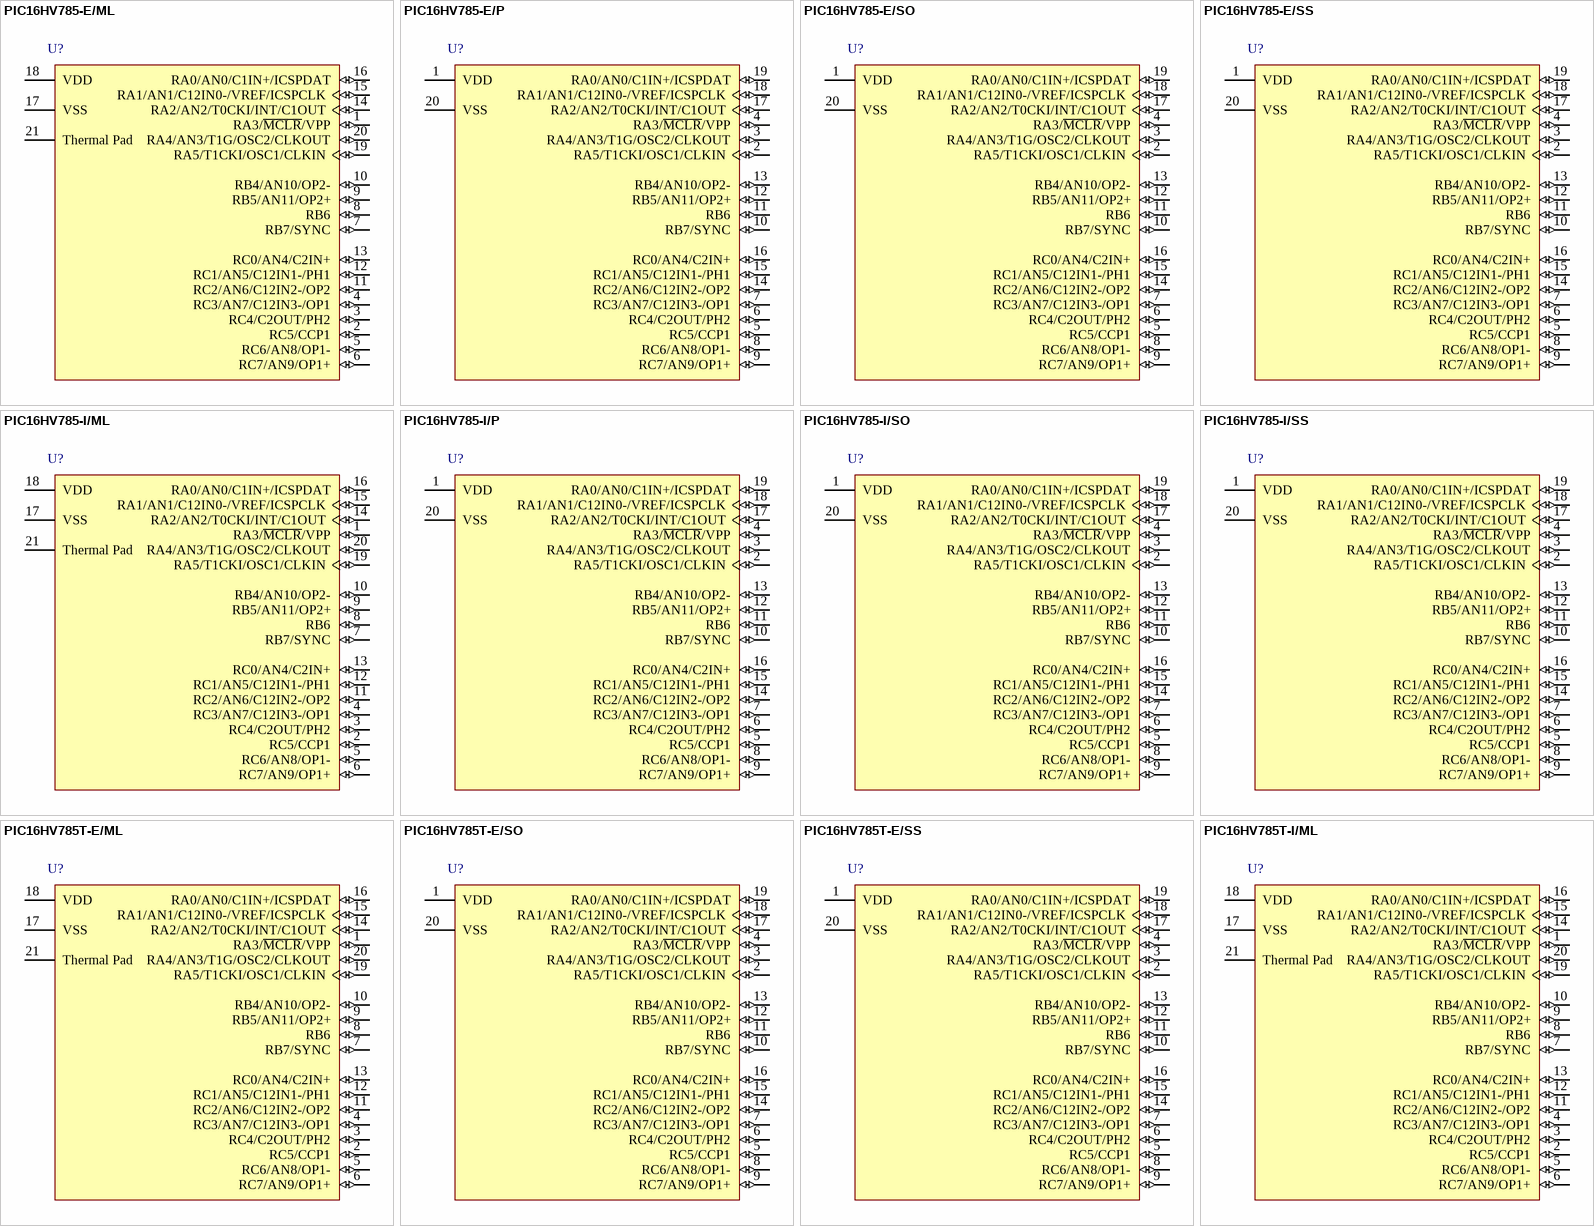
[diagram p87: symbols PIC16HV785-E/ML to PIC16HV785T-I/ML]

## PIC16HV785-E/ML
designator U?
Flash-Based 8-Bit CMOS Microcontroller, 2K (x14-Bit words) Program Memory, 384 Bytes Data Memory, 17 I/O pins, 20-Pin QFN, Extended Temperature; Manufacturer: Microchip; PartNumber: PIC16HV785-E/ML; DatasheetVersion: revE, Seb-2008; PackageVersion: revBB, Aug-2009; PackageReference: QFN-ML20; PackageDescription: 20-Lead Plastic Quad Flat, No Lead Package (ML) - 4x4x0.9 mm Body [QFN]; Supplier 1: Digi-Key; Supplier Part Number 1: PIC16HV785-E/ML-ND; Supplier 2: Mouser; Supplier Part Number 2: 579-PIC16HV785-E/ML; ComponentLink1Description: Manufacturer URL; ComponentLink1URL: http://www.microchip.com/; ComponentLink2Description: Datasheet; ComponentLink2URL: http://ww1.microchip.com/downloads/en/DeviceDoc/41249E.pdf; ComponentLink3Description: Package Specification; ComponentLink3URL: http://www.microchip.com/stellent/groups/techpub_sg/documents/packagingspec/en012702.pdf
footprint QFN-ML20_N (QFN, 20-Leads, Body 4x4mm, Pitch 0.5mm, Thermal Pad 2.8x2.8mm, IPC Medium Density)
footprint QFN-ML20_L (QFN, 20-Leads, Body 4x4mm, Pitch 0.5mm, Thermal Pad 2.8x2.8mm, IPC High Density)
footprint QFN-ML20_M (QFN, 20-Leads, Body 4x4mm, Pitch 0.5mm, Thermal Pad 2.8x2.8mm, IPC Low Density)
pins: 1 RA3/~{MCLR}/VPP (io), 2 RC5/CCP1 (io), 3 RC4/C2OUT/PH2 (io), 4 RC3/AN7/C12IN3-/OP1 (io), 5 RC6/AN8/OP1- (io), 6 RC7/AN9/OP1+ (io), 7 RB7/SYNC (io), 8 RB6 (io), 9 RB5/AN11/OP2+ (io), 10 RB4/AN10/OP2- (io), 11 RC2/AN6/C12IN2-/OP2 (io), 12 RC1/AN5/C12IN1-/PH1 (io), 13 RC0/AN4/C2IN+ (io), 14 RA2/AN2/T0CKI/INT/C1OUT (io), 15 RA1/AN1/C12IN0-/VREF/ICSPCLK (io), 16 RA0/AN0/C1IN+/ICSPDAT (io), 17 VSS (power), 18 VDD (power), 19 RA5/T1CKI/OSC1/CLKIN (io), 20 RA4/AN3/T1G/OSC2/CLKOUT (io), 21 Thermal Pad

## PIC16HV785-E/P
designator U?
Flash-Based 8-Bit CMOS Microcontroller, 2K (x14-Bit words) Program Memory, 384 Bytes Data Memory, 17 I/O pins, 20-Pin PDIP, Extended Temperature; Manufacturer: Microchip; PartNumber: PIC16HV785-E/P; DatasheetVersion: revE, Seb-2008; PackageVersion: revBB, Aug-2009; PackageReference: PDIP300-P20; PackageDescription: 20-Lead Plastic Dual In-Line (P) - 300 mil Body [PDIP]; Supplier 1: Digi-Key; Supplier Part Number 1: PIC16HV785-E/P-ND; Supplier 2: Mouser; Supplier Part Number 2: 579-PIC16HV785-E/P; ComponentLink1Description: Manufacturer URL; ComponentLink1URL: http://www.microchip.com/; ComponentLink2Description: Datasheet; ComponentLink2URL: http://ww1.microchip.com/downloads/en/DeviceDoc/41249E.pdf; ComponentLink3Description: Package Specification; ComponentLink3URL: http://www.microchip.com/stellent/groups/techpub_sg/documents/packagingspec/en012702.pdf
footprint PDIP300-P20 (DIP, 20-Leads, Row Spacing 7.62mm, Pitch 2.54mm, Body 25.9x6.6mm)
pins: 1 VDD (power), 2 RA5/T1CKI/OSC1/CLKIN (io), 3 RA4/AN3/T1G/OSC2/CLKOUT (io), 4 RA3/~{MCLR}/VPP (io), 5 RC5/CCP1 (io), 6 RC4/C2OUT/PH2 (io), 7 RC3/AN7/C12IN3-/OP1 (io), 8 RC6/AN8/OP1- (io), 9 RC7/AN9/OP1+ (io), 10 RB7/SYNC (io), 11 RB6 (io), 12 RB5/AN11/OP2+ (io), 13 RB4/AN10/OP2- (io), 14 RC2/AN6/C12IN2-/OP2 (io), 15 RC1/AN5/C12IN1-/PH1 (io), 16 RC0/AN4/C2IN+ (io), 17 RA2/AN2/T0CKI/INT/C1OUT (io), 18 RA1/AN1/C12IN0-/VREF/ICSPCLK (io), 19 RA0/AN0/C1IN+/ICSPDAT (io), 20 VSS (power)

## PIC16HV785-E/SO
designator U?
Flash-Based 8-Bit CMOS Microcontroller, 2K (x14-Bit words) Program Memory, 384 Bytes Data Memory, 17 I/O pins, 20-Pin SOIC, Extended Temperature; Manufacturer: Microchip; PartNumber: PIC16HV785-E/SO; DatasheetVersion: revE, Seb-2008; PackageVersion: revBB, Aug-2009; PackageReference: SOIC-SO20; PackageDescription: 20-Lead Plastic Small Outline (SO) - Wide 7.50mm Body [SOIC]; Supplier 1: Digi-Key; Supplier Part Number 1: PIC16HV785-E/SO-ND; Supplier 2: Newark; Supplier Part Number 2: 74K8602; Supplier 3: Mouser; Supplier Part Number 3: 579-PIC16HV785-E/SO; Code_JEDEC: MS-013-AC; Code_IPC: SOIC127P1030-20; ComponentLink1Description: Manufacturer URL; ComponentLink1URL: http://www.microchip.com/; ComponentLink2Description: Datasheet; ComponentLink2URL: http://ww1.microchip.com/downloads/en/DeviceDoc/41249E.pdf; ComponentLink3Description: Package Specification; ComponentLink3URL: http://www.microchip.com/stellent/groups/techpub_sg/documents/packagingspec/en012702.pdf
footprint SOIC-SO20_N (SOIC, 20-Leads, Body 12.8x7.5mm, Pitch 1.27mm, IPC Medium Density)
footprint SOIC-SO20_L (SOIC, 20-Leads, Body 12.8x7.5mm, Pitch 1.27mm, IPC High Density)
footprint SOIC-SO20_M (SOIC, 20-Leads, Body 12.8x7.5mm, Pitch 1.27mm, IPC Low Density)
pins: 1 VDD (power), 2 RA5/T1CKI/OSC1/CLKIN (io), 3 RA4/AN3/T1G/OSC2/CLKOUT (io), 4 RA3/~{MCLR}/VPP (io), 5 RC5/CCP1 (io), 6 RC4/C2OUT/PH2 (io), 7 RC3/AN7/C12IN3-/OP1 (io), 8 RC6/AN8/OP1- (io), 9 RC7/AN9/OP1+ (io), 10 RB7/SYNC (io), 11 RB6 (io), 12 RB5/AN11/OP2+ (io), 13 RB4/AN10/OP2- (io), 14 RC2/AN6/C12IN2-/OP2 (io), 15 RC1/AN5/C12IN1-/PH1 (io), 16 RC0/AN4/C2IN+ (io), 17 RA2/AN2/T0CKI/INT/C1OUT (io), 18 RA1/AN1/C12IN0-/VREF/ICSPCLK (io), 19 RA0/AN0/C1IN+/ICSPDAT (io), 20 VSS (power)

## PIC16HV785-E/SS
designator U?
Flash-Based 8-Bit CMOS Microcontroller, 2K (x14-Bit words) Program Memory, 384 Bytes Data Memory, 17 I/O pins, 20-Pin SSOP, Extended Temperature; Manufacturer: Microchip; PartNumber: PIC16HV785-E/SS; DatasheetVersion: revE, Seb-2008; PackageVersion: revBB, Aug-2009; PackageReference: SSOP-SS20; PackageDescription: 20-Lead Plastic Shrink Small Outline (SS) - 5.3mm Body [SSOP]; Supplier 1: Digi-Key; Supplier Part Number 1: PIC16HV785-E/SS-ND; Supplier 2: Mouser; Supplier Part Number 2: 579-PIC16HV785-E/SS; Code_JEDEC: MO-150; ComponentLink1Description: Manufacturer URL; ComponentLink1URL: http://www.microchip.com/; ComponentLink2Description: Datasheet; ComponentLink2URL: http://ww1.microchip.com/downloads/en/DeviceDoc/41249E.pdf; ComponentLink3Description: Package Specification; ComponentLink3URL: http://www.microchip.com/stellent/groups/techpub_sg/documents/packagingspec/en012702.pdf
footprint SSOP-SS20_N (SOP, 20-Leads, Body 7.2x5.2mm, Pitch 0.65mm, IPC Medium Density)
footprint SSOP-SS20_L (SOP, 20-Leads, Body 7.2x5.2mm, Pitch 0.65mm, IPC High Density)
footprint SSOP-SS20_M (SOP, 20-Leads, Body 7.2x5.2mm, Pitch 0.65mm, IPC Low Density)
pins: 1 VDD (power), 2 RA5/T1CKI/OSC1/CLKIN (io), 3 RA4/AN3/T1G/OSC2/CLKOUT (io), 4 RA3/~{MCLR}/VPP (io), 5 RC5/CCP1 (io), 6 RC4/C2OUT/PH2 (io), 7 RC3/AN7/C12IN3-/OP1 (io), 8 RC6/AN8/OP1- (io), 9 RC7/AN9/OP1+ (io), 10 RB7/SYNC (io), 11 RB6 (io), 12 RB5/AN11/OP2+ (io), 13 RB4/AN10/OP2- (io), 14 RC2/AN6/C12IN2-/OP2 (io), 15 RC1/AN5/C12IN1-/PH1 (io), 16 RC0/AN4/C2IN+ (io), 17 RA2/AN2/T0CKI/INT/C1OUT (io), 18 RA1/AN1/C12IN0-/VREF/ICSPCLK (io), 19 RA0/AN0/C1IN+/ICSPDAT (io), 20 VSS (power)

## PIC16HV785-I/ML
designator U?
Flash-Based 8-Bit CMOS Microcontroller, 2K (x14-Bit words) Program Memory, 384 Bytes Data Memory, 17 I/O pins, 20-Pin QFN, Industrial Temperature; Manufacturer: Microchip; PartNumber: PIC16HV785-I/ML; DatasheetVersion: revE, Seb-2008; PackageVersion: revBB, Aug-2009; PackageReference: QFN-ML20; PackageDescription: 20-Lead Plastic Quad Flat, No Lead Package (ML) - 4x4x0.9 mm Body [QFN]; Supplier 1: Digi-Key; Supplier Part Number 1: PIC16HV785-I/ML-ND; Supplier 2: Mouser; Supplier Part Number 2: 579-PIC16HV785-I/ML; ComponentLink1Description: Manufacturer URL; ComponentLink1URL: http://www.microchip.com/; ComponentLink2Description: Datasheet; ComponentLink2URL: http://ww1.microchip.com/downloads/en/DeviceDoc/41249E.pdf; ComponentLink3Description: Package Specification; ComponentLink3URL: http://www.microchip.com/stellent/groups/techpub_sg/documents/packagingspec/en012702.pdf
footprint QFN-ML20_N (QFN, 20-Leads, Body 4x4mm, Pitch 0.5mm, Thermal Pad 2.8x2.8mm, IPC Medium Density)
footprint QFN-ML20_L (QFN, 20-Leads, Body 4x4mm, Pitch 0.5mm, Thermal Pad 2.8x2.8mm, IPC High Density)
footprint QFN-ML20_M (QFN, 20-Leads, Body 4x4mm, Pitch 0.5mm, Thermal Pad 2.8x2.8mm, IPC Low Density)
pins: 1 RA3/~{MCLR}/VPP (io), 2 RC5/CCP1 (io), 3 RC4/C2OUT/PH2 (io), 4 RC3/AN7/C12IN3-/OP1 (io), 5 RC6/AN8/OP1- (io), 6 RC7/AN9/OP1+ (io), 7 RB7/SYNC (io), 8 RB6 (io), 9 RB5/AN11/OP2+ (io), 10 RB4/AN10/OP2- (io), 11 RC2/AN6/C12IN2-/OP2 (io), 12 RC1/AN5/C12IN1-/PH1 (io), 13 RC0/AN4/C2IN+ (io), 14 RA2/AN2/T0CKI/INT/C1OUT (io), 15 RA1/AN1/C12IN0-/VREF/ICSPCLK (io), 16 RA0/AN0/C1IN+/ICSPDAT (io), 17 VSS (power), 18 VDD (power), 19 RA5/T1CKI/OSC1/CLKIN (io), 20 RA4/AN3/T1G/OSC2/CLKOUT (io), 21 Thermal Pad

## PIC16HV785-I/P
designator U?
Flash-Based 8-Bit CMOS Microcontroller, 2K (x14-Bit words) Program Memory, 384 Bytes Data Memory, 17 I/O pins, 20-Pin PDIP, Industrial Temperature; Manufacturer: Microchip; PartNumber: PIC16HV785-I/P; DatasheetVersion: revE, Seb-2008; PackageVersion: revBB, Aug-2009; PackageReference: PDIP300-P20; PackageDescription: 20-Lead Plastic Dual In-Line (P) - 300 mil Body [PDIP]; Supplier 1: Digi-Key; Supplier Part Number 1: PIC16HV785-I/P-ND; Supplier 2: Farnell; Supplier Part Number 2: 1332225; Supplier 3: Newark; Supplier Part Number 3: 74K8605; Supplier 4: Mouser; Supplier Part Number 4: 579-PIC16HV785-I/P; ComponentLink1Description: Manufacturer URL; ComponentLink1URL: http://www.microchip.com/; ComponentLink2Description: Datasheet; ComponentLink2URL: http://ww1.microchip.com/downloads/en/DeviceDoc/41249E.pdf; ComponentLink3Description: Package Specification; ComponentLink3URL: http://www.microchip.com/stellent/groups/techpub_sg/documents/packagingspec/en012702.pdf
footprint PDIP300-P20 (DIP, 20-Leads, Row Spacing 7.62mm, Pitch 2.54mm, Body 25.9x6.6mm)
pins: 1 VDD (power), 2 RA5/T1CKI/OSC1/CLKIN (io), 3 RA4/AN3/T1G/OSC2/CLKOUT (io), 4 RA3/~{MCLR}/VPP (io), 5 RC5/CCP1 (io), 6 RC4/C2OUT/PH2 (io), 7 RC3/AN7/C12IN3-/OP1 (io), 8 RC6/AN8/OP1- (io), 9 RC7/AN9/OP1+ (io), 10 RB7/SYNC (io), 11 RB6 (io), 12 RB5/AN11/OP2+ (io), 13 RB4/AN10/OP2- (io), 14 RC2/AN6/C12IN2-/OP2 (io), 15 RC1/AN5/C12IN1-/PH1 (io), 16 RC0/AN4/C2IN+ (io), 17 RA2/AN2/T0CKI/INT/C1OUT (io), 18 RA1/AN1/C12IN0-/VREF/ICSPCLK (io), 19 RA0/AN0/C1IN+/ICSPDAT (io), 20 VSS (power)

## PIC16HV785-I/SO
designator U?
Flash-Based 8-Bit CMOS Microcontroller, 2K (x14-Bit words) Program Memory, 384 Bytes Data Memory, 17 I/O pins, 20-Pin SOIC, Industrial Temperature; Manufacturer: Microchip; PartNumber: PIC16HV785-I/SO; DatasheetVersion: revE, Seb-2008; PackageVersion: revBB, Aug-2009; PackageReference: SOIC-SO20; PackageDescription: 20-Lead Plastic Small Outline (SO) - Wide 7.50mm Body [SOIC]; Supplier 1: Digi-Key; Supplier Part Number 1: PIC16HV785-I/SO-ND; Supplier 2: Farnell; Supplier Part Number 2: 1332226; Supplier 3: Newark; Supplier Part Number 3: 34M8003; Supplier 4: Mouser; Supplier Part Number 4: 579-PIC16HV785-I/SO; Code_JEDEC: MS-013-AC; Code_IPC: SOIC127P1030-20; ComponentLink1Description: Manufacturer URL; ComponentLink1URL: http://www.microchip.com/; ComponentLink2Description: Datasheet; ComponentLink2URL: http://ww1.microchip.com/downloads/en/DeviceDoc/41249E.pdf; ComponentLink3Description: Package Specification; ComponentLink3URL: http://www.microchip.com/stellent/groups/techpub_sg/documents/packagingspec/en012702.pdf
footprint SOIC-SO20_N (SOIC, 20-Leads, Body 12.8x7.5mm, Pitch 1.27mm, IPC Medium Density)
footprint SOIC-SO20_L (SOIC, 20-Leads, Body 12.8x7.5mm, Pitch 1.27mm, IPC High Density)
footprint SOIC-SO20_M (SOIC, 20-Leads, Body 12.8x7.5mm, Pitch 1.27mm, IPC Low Density)
pins: 1 VDD (power), 2 RA5/T1CKI/OSC1/CLKIN (io), 3 RA4/AN3/T1G/OSC2/CLKOUT (io), 4 RA3/~{MCLR}/VPP (io), 5 RC5/CCP1 (io), 6 RC4/C2OUT/PH2 (io), 7 RC3/AN7/C12IN3-/OP1 (io), 8 RC6/AN8/OP1- (io), 9 RC7/AN9/OP1+ (io), 10 RB7/SYNC (io), 11 RB6 (io), 12 RB5/AN11/OP2+ (io), 13 RB4/AN10/OP2- (io), 14 RC2/AN6/C12IN2-/OP2 (io), 15 RC1/AN5/C12IN1-/PH1 (io), 16 RC0/AN4/C2IN+ (io), 17 RA2/AN2/T0CKI/INT/C1OUT (io), 18 RA1/AN1/C12IN0-/VREF/ICSPCLK (io), 19 RA0/AN0/C1IN+/ICSPDAT (io), 20 VSS (power)